# Altium integrated library LIS3MDL.IntLib: 1 symbol
Pins are listed as number, name and electrical type; pins without a type are passive.

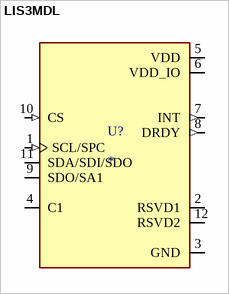
[diagram p0: symbol LIS3MDL]

## LIS3MDL
designator U?
Magnetoresistive Sensor X, Y, Z Axis 12-LGA (2x2); MF: STMicroelectronics; MP: LIS3MDL; SnapEDA_Link: https://www.snapeda.com/parts/LIS3MDL/STMicroelectronics/view-part/?ref=snap; Package: VFLGA-12 STMicroelectronics; Value: *; Check_prices: https://www.snapeda.com/parts/LIS3MDL/STMicroelectronics/view-part/?ref=eda
footprint XDCR_LIS3MDL
pins: 1 SCL/SPC (in), 2 RSVD1, 3 GND (power), 4 C1, 5 VDD (power), 6 VDD_IO (power), 7 INT (out), 8 DRDY (out), 9 SDO/SA1 (io), 10 CS (in), 11 SDA/SDI/SDO (io), 12 RSVD2